# EAGLE library part 10033526-N3212LF (library ruark2)
USB - mini B Receptacle Connector 5 Position Surface Mount, Right Angle
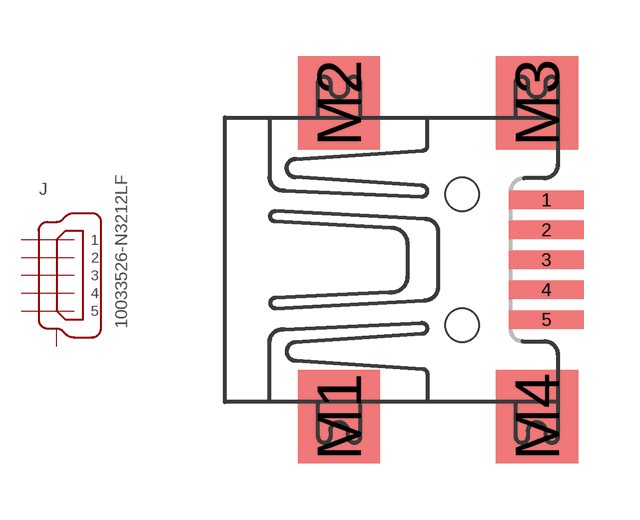
[diagram p41: symbol with the pads of MINI_USB; footprint MINI_USB]

Designator prefix J

## 10033526-N3212LF (PARTNO: 609-4700-1-ND)  [MINI_USB]
1  1  in
2  2  in
3  3  in
4  4  in
5  5  in
M1  C
M2  C
M3  C
M4  C

## Footprint MINI_USB (pad centres in mm)
smd 2 x 0.5: 1 4.79,1.6; 2 4.79,0.8; 3 4.79,0; 4 4.79,-0.8; 5 4.79,-1.6
smd 2.2 x 2.5: M1 -0.76,-4.2; M2 -0.76,4.2; M3 4.54,4.2; M4 4.54,-4.2
hole 0.9 at 2.54,-1.75
hole 0.9 at 2.54,1.75